# Altium footprint library HT-T169DNC_white.PcbLib: 1 footprints
Each footprint in its own frame and in the unit in brackets; x right, y up, seen from the top. Pads: shape width x height; smd on the part's side, far side on the other; paste and mask are expansions set on the pad; w line width, h text height; cw(c..) or ccw(c..) is an arc to the next point about the centre after c.
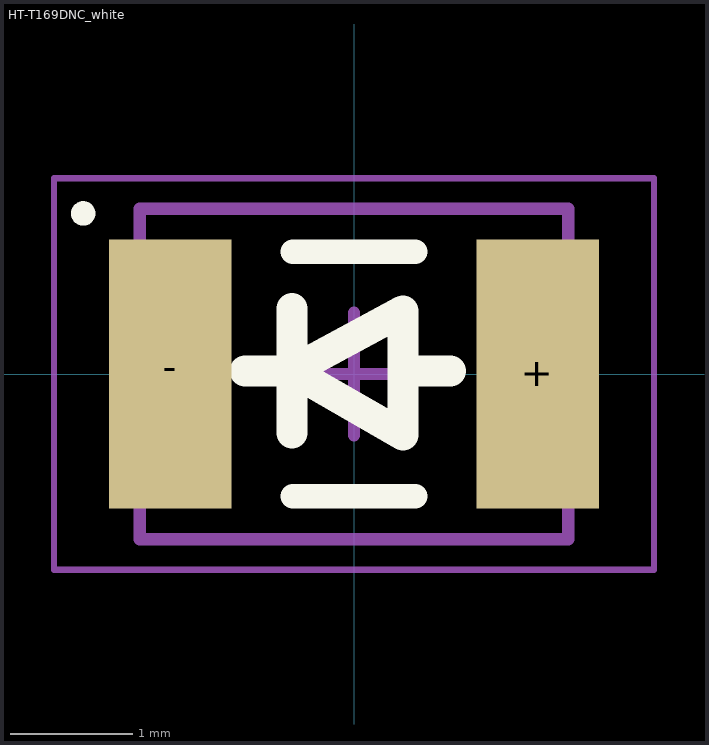
[diagram p0: the footprint, top view; thin cyan lines are the x and y axes]

## HT-T169DNC_white [mm] "Chip LED white, 2-Leads, Body 3.50x2.70mm, IPC Medium Density"
height 1.8
pads (2):
  rect 1x2.2 smd: +(1.5,0) -(-1.5,0)
Top Overlay:
  circle w0.1: c-2.212,1.312 r0.05
  lines w0.2: -0.5,-1 0.5,-1 ; -0.5,1 0.5,1
  lines w0.254: -0.889,0.025 -0.508,0.025 ; -0.508,-0.483 -0.508,0.533 ; 0.406,0.025 0.787,0.025 ; -0.508,0.025 0.4,0.516 0.4,-0.5 -0.508,0.025
Mechanical 13:
  lines w0.1: -1.75,-1.35 1.75,-1.35 1.75,1.35 -1.75,1.35 -1.75,-1.35
Mechanical 15:
  lines w0.05: -2.45,-1.6 2.45,-1.6 2.45,1.6 -2.45,1.6 -2.45,-1.6
  lines w0.1: -0.5,0 0.5,0 ; 0,-0.5 0,0.5
3D body: height 1.8, standoff 0, extent 0.95,-1.35 1.75,1.35
3D body: height 1.8, standoff 0, extent -1.75,-1.35 -0.95,1.35
3D body: height 1.8, standoff 0, extent -0.95,-1.35 0.95,1.35